# Altium footprint library Icarus PCB_Lib.PcbLib: 23 footprints (part 1 of 2)
Each footprint in its own frame and in the unit in brackets; x right, y up, seen from the top. Pads: shape width x height; smd on the part's side, far side on the other; paste and mask are expansions set on the pad; w line width, h text height; cw(c..) or ccw(c..) is an arc to the next point about the centre after c.
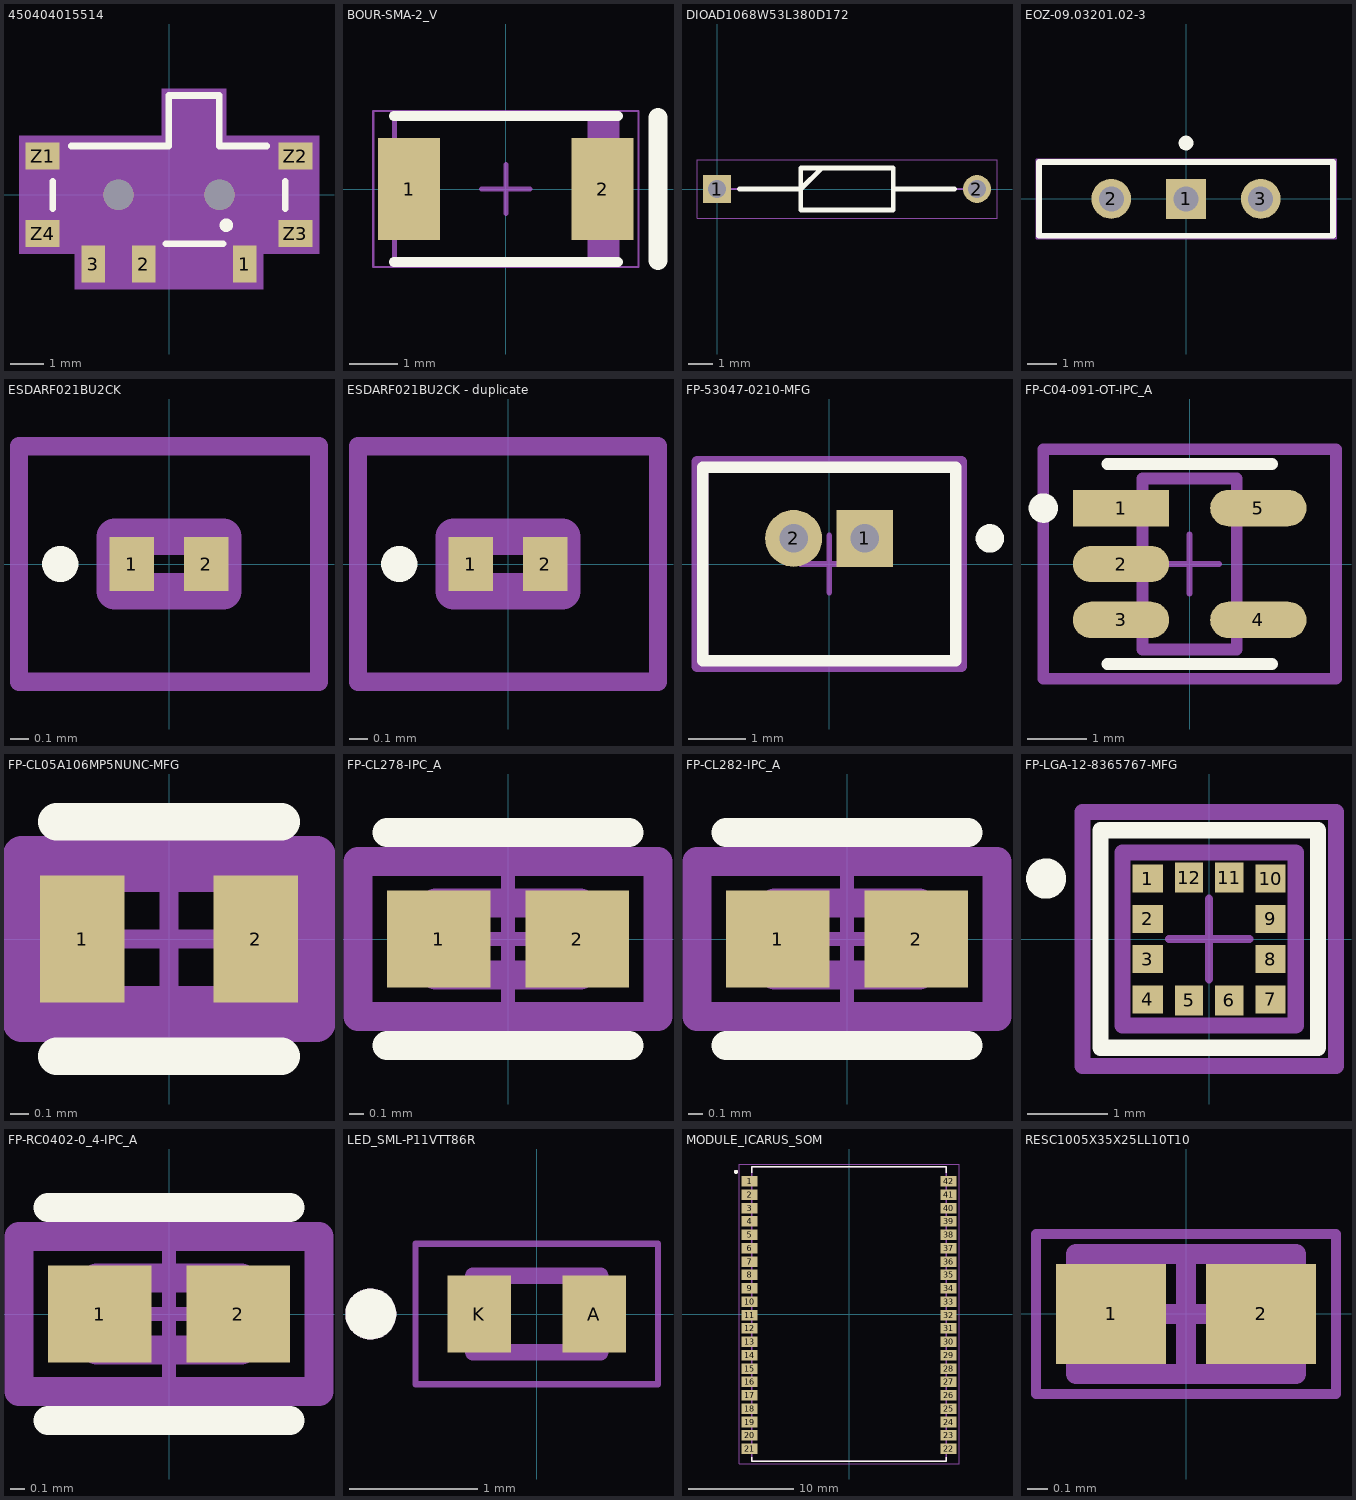
[diagram p0: the footprints below, top view; thin cyan lines are the x and y axes]

## 450404015514 [mm]
pads (9):
  rect 0.7x1.1 smd: 1(2.25,-2.05) 2(-0.75,-2.05) 3(-2.25,-2.05)
  rect 1x0.8 smd: Z1(-3.75,1.15) Z2(3.75,1.15) Z3(3.75,-1.15) Z4(-3.75,-1.15)
  round 0.9 hole 0.9 unplated: ""(-1.5,0) ""(1.5,0)
Top Overlay:
  circle w0.2: c1.7,-0.9 r0.1
  lines w0.2: -3.45,-0.4 -3.45,0.4 ; -2.9,1.45 -0.01,1.45 -0.01,2.95 1.49,2.95 1.49,1.45 2.9,1.45 ; -0.1,-1.45 1.6,-1.45 ; 3.45,-0.4 3.45,0.4
Mechanical 13:
  lines w0.1: 0.09,1.35 -3.35,1.35 -3.35,-1.35 3.35,-1.35 3.35,1.35 1.39,1.35 ; 0.09,1.35 1.39,1.35 ; 0.09,1.35 0.09,2.85 1.39,2.85 1.39,1.35
Mechanical 15:
  region: 1.7,1.75 4.45,1.75 4.45,-1.75 2.8,-1.75 2.8,-2.8 -2.8,-2.8 -2.8,-1.75 -4.45,-1.75 -4.45,1.75 -0.21,1.75 -0.21,3.15 1.7,3.15

## BOUR-SMA-2_V [mm] "SMA, 2-Leads, Body 4.57x2.92mm"
height 2.62
pads (2):
  rect 1.27x2.1 smd: 1(-1.985,0) 2(1.985,0)
Top Overlay:
  lines w0.2: -2.3,-1.5 2.3,-1.5 ; -2.3,1.5 2.3,1.5
  lines w0.4: 3.12,-1.46 3.12,1.46
Mechanical 13:
  rectangle: 1.67,-1.46 2.285,1.46
  lines w0.1: -2.285,-1.46 -2.285,1.46 2.285,1.46 2.285,-1.46 -2.285,-1.46
Mechanical 15:
  lines w0.05: -2.72,-1.6 -2.72,1.6 2.72,1.6 2.72,-1.6 -2.72,-1.6
  lines w0.1: -0.5,0 0.5,0 ; 0,-0.5 0,0.5
3D body "DIOM4326X26L.step": height 2.62, standoff 0, extent -2.505,-1.46 2.505,1.46

## DIOAD1068W53L380D172 [mm]
pads (2):
  rect 1.15x1.15 / inner round 1.15 / far side rect 1.15x1.15 hole 0.75: 1(0,0)
  round 1.15 hole 0.75: 2(10.7,0)
Top Overlay:
  lines w0.2: 0.925,0 3.448,0 4.308,0.86 ; 7.252,0 9.775,0 ; 3.448,-0.86 3.448,0.86 7.252,0.86 7.252,-0.86 3.448,-0.86
Mechanical 15:
  lines w0.1: 0,0 3.448,0 4.308,0.86 ; 7.252,0 10.7,0 ; 3.448,-0.86 3.448,0.86 7.253,0.86 7.253,-0.86 3.448,-0.86
Bottom Assembly:
  lines w0.05: -0.825,-1.21 -0.825,1.21 11.525,1.21 11.525,-1.21 -0.825,-1.21
3D body "1N5223B.stp": height 1.9, standoff -1.91, extent -0.252,-0.953 10.964,0.953

## EOZ-09.03201.02-3 [mm] "TH, 3-Leads, Body 10x2.5mm, Pitch 2.54mm"
height 6.4
pads (3):
  rect 1.35x1.35 hole 0.85: 1(0,0)
  round 1.35 hole 0.85: 2(-2.54,0) 3(2.54,0)
Top Overlay:
  circle w0.25: c0,1.9 r0.125
  lines w0.2: -5,-1.25 5,-1.25 5,1.25 -5,1.25 -5,-1.25
Mechanical 13:
  lines w0.1: -5,-1.25 5,-1.25 5,1.25 -5,1.25 -5,-1.25
Mechanical 15:
  lines w0.05: -5.1,-1.35 -5.1,1.35 5.1,1.35 5.1,-1.35 -5.1,-1.35
3D body: height 6.4, standoff 0, extent -5,-1.25 5,1.25

## ESDARF021BU2CK [mm]
pads (2):
  rect 0.244x0.3 smd: 1(-0.206,0) 2(0.206,0)
Top Overlay:
  lines w0.1: -0.6,-0.05 ccw(c-0.6,0) -0.6,0.05 ccw(c-0.6,0) -0.6,-0.05
Mechanical 15:
  lines w0.2: -0.3,-0.15 -0.3,0.15 0.3,0.15 0.3,-0.15 -0.3,-0.15
Bottom Assembly:
  lines w0.1: -0.828,-0.65 -0.828,0.65 0.828,0.65 0.828,-0.65 -0.828,-0.65
3D body "ESDARF02-1BU2CK.stp": height 0.43, standoff 0, extent -0.304,-0.15 0.304,0.15

## ESDARF021BU2CK - duplicate [mm]
pads (2):
  rect 0.244x0.3 smd: 1(-0.206,0) 2(0.206,0)
Top Overlay:
  lines w0.1: -0.6,-0.05 ccw(c-0.6,0) -0.6,0.05 ccw(c-0.6,0) -0.6,-0.05
Mechanical 15:
  lines w0.2: -0.3,-0.15 -0.3,0.15 0.3,0.15 0.3,-0.15 -0.3,-0.15
Bottom Assembly:
  lines w0.1: -0.828,-0.65 -0.828,0.65 0.828,0.65 0.828,-0.65 -0.828,-0.65

## FP-53047-0210-MFG [mm]
pads (2):
  rect 1x1 hole 0.5 paste-1000 mask+0: 1(0.625,0.45)
  round 1 hole 0.5 paste-1000 mask+0: 2(-0.625,0.45)
Top Overlay:
  circle w0.25: c2.825,0.45 r0.125
  lines w0.2: -2.225,-1.7 2.225,-1.7 2.225,1.7 -2.225,1.7 -2.225,-1.7
Top 3D Body:
  lines w0.2: -2.225,-1.7 2.225,-1.7 2.225,1.7 -2.225,1.7 -2.225,-1.7
Top Courtyard:
  lines w0.2: -2.325,-1.8 2.325,-1.8 2.325,1.8 -2.325,1.8 -2.325,-1.8
Top Assembly:
  lines w0.2: -2.325,-1.8 2.325,-1.8 2.325,1.8 -2.325,1.8 -2.325,-1.8
  text ".Designator" at 0,0.188 h1
Top Component Center:
  lines w0.1: -0.5,0 0.5,0 ; 0,-0.5 0,0.5
3D body "Conn_Molex_53047-0210_eec.STEP": height 0.25, standoff 0, extent -2.325,-1.8 2.325,1.8

## FP-C04-091-OT-IPC_A [mil]
pads (5):
  rect 64.5x24.33 smd paste+0 mask+0: 1(-45.91,37.4)
  rrect100% 64.5x24.33 smd paste+0 mask+0: 2(-45.91,0) 3(-45.91,-37.4) 4(45.91,-37.4) 5(45.91,37.4)
Top Overlay:
  circle w9.84: c-97.85,37.4 r4.92
  lines w7.87: -55.12,-66.93 55.12,-66.93 ; -55.12,66.93 55.12,66.93
Top 3D Body:
  lines w7.87: -31.5,-57.09 -31.5,57.09 31.5,57.09 31.5,-57.09 -31.5,-57.09
Top Courtyard:
  lines w7.87: -97.85,-76.77 -97.85,76.77 97.85,76.77 97.85,-76.77 -97.85,-76.77
Top Assembly:
  lines w7.87: -97.85,-76.77 -97.85,76.77 97.85,76.77 97.85,-76.77 -97.85,-76.77
  text ".Designator" at 0,7.41 h39.37
Top Component Center:
  lines w3.94: -19.68,0 19.68,0 ; 0,-19.68 0,19.68

## FP-CL05A106MP5NUNC-MFG [mm]
pads (2):
  rect 0.45x0.675 smd paste+0 mask+0: 1(-0.463,0) 2(0.463,0)
Top Overlay:
  lines w0.2: -0.6,-0.625 0.6,-0.625 ; -0.6,0.625 0.6,0.625
Top 3D Body:
  lines w0.2: -0.6,-0.35 0.6,-0.35 0.6,0.35 -0.6,0.35 -0.6,-0.35
Top Courtyard:
  lines w0.2: -0.787,-0.45 0.787,-0.45 0.787,0.45 -0.787,0.45 -0.787,-0.45
Top Assembly:
  lines w0.2: -0.787,-0.45 0.787,-0.45 0.787,0.45 -0.787,0.45 -0.787,-0.45
  text ".Designator" at 0,0.188 h1
Top Component Center:
  lines w0.1: -0.5,0 0.5,0 ; 0,-0.5 0,0.5
3D body "Cap_Samsung_CL05A106MP5NUNC_eec.STEP": height 0.25, standoff 0, extent -0.787,-0.45 0.787,0.45

## FP-CL278-IPC_A [mm]
pads (2):
  rect 0.715x0.672 smd paste+0 mask+0: 1(-0.479,0) 2(0.479,0)
Top Overlay:
  lines w0.2: -0.836,-0.736 0.836,-0.736 ; -0.836,0.736 0.836,0.736
Top 3D Body:
  lines w0.2: -0.5,-0.25 -0.5,0.25 0.5,0.25 0.5,-0.25 -0.5,-0.25
Top Courtyard:
  lines w0.2: -1.036,-0.536 -1.036,0.536 1.036,0.536 1.036,-0.536 -1.036,-0.536
Top Assembly:
  lines w0.2: -1.036,-0.536 -1.036,0.536 1.036,0.536 1.036,-0.536 -1.036,-0.536
  text ".Designator" at 0,0.188 h1
Top Component Center:
  lines w0.1: -0.5,0 0.5,0 ; 0,-0.5 0,0.5
3D body "Cap_Samsung_CL05A104KA5NNNC_eec.STEP": height 0.25, standoff 0, extent -1.036,-0.536 1.036,0.536

## FP-CL282-IPC_A [mm]
pads (2):
  rect 0.715x0.672 smd paste+0 mask+0: 1(-0.479,0) 2(0.479,0)
Top Overlay:
  lines w0.2: -0.836,-0.736 0.836,-0.736 ; -0.836,0.736 0.836,0.736
Top 3D Body:
  lines w0.2: -0.5,-0.25 0.5,-0.25 0.5,0.25 -0.5,0.25 -0.5,-0.25
Top Courtyard:
  lines w0.2: -1.036,-0.536 1.036,-0.536 1.036,0.536 -1.036,0.536 -1.036,-0.536
Top Assembly:
  lines w0.2: -1.036,-0.536 1.036,-0.536 1.036,0.536 -1.036,0.536 -1.036,-0.536
  text ".Designator" at 0,0.188 h1
Top Component Center:
  lines w0.1: -0.5,0 0.5,0 ; 0,-0.5 0,0.5
3D body "Cap_Samsung_CL05A475MP5NRNC_eec.STEP": height 0.25, standoff 0, extent -1.036,-0.536 1.036,0.536

## FP-LGA-12-8365767-MFG [mm]
pads (12):
  rect 0.375x0.35 smd paste-1000 mask+0: 1(-0.763,0.75) 2(-0.763,0.25) 3(-0.763,-0.25) 4(-0.763,-0.75) 7(0.763,-0.75) 8(0.763,-0.25) 9(0.763,0.25) 10(0.763,0.75)
  rect 0.35x0.375 smd paste-1000 mask+0: 5(-0.25,-0.763) 6(0.25,-0.763) 11(0.25,0.763) 12(-0.25,0.763)
Top Overlay:
  circle w0.25: c-2.025,0.75 r0.125
  lines w0.2: -1.35,-1.35 -1.35,1.35 1.35,1.35 1.35,-1.35 -1.35,-1.35
Top Paste:
  rectangle: 0.093,0.595 0.406,0.93
  rectangle: -0.406,0.595 -0.093,0.93
  rectangle: 0.093,-0.93 0.406,-0.595
  rectangle: -0.406,-0.93 -0.093,-0.595
  rectangle: 0.595,-0.907 0.93,-0.593
  rectangle: 0.595,-0.406 0.93,-0.093
  rectangle: 0.595,0.093 0.93,0.406
  rectangle: 0.595,0.593 0.93,0.907
  rectangle: -0.93,-0.907 -0.595,-0.593
  rectangle: -0.93,-0.406 -0.595,-0.093
  rectangle: -0.93,0.093 -0.595,0.406
  rectangle: -0.93,0.593 -0.595,0.907
Top 3D Body:
  lines w0.2: -1.075,-1.075 -1.075,1.075 1.075,1.075 1.075,-1.075 -1.075,-1.075
Top Courtyard:
  lines w0.2: -1.575,-1.575 -1.575,1.575 1.575,1.575 1.575,-1.575 -1.575,-1.575
Top Assembly:
  lines w0.2: -1.575,-1.575 -1.575,1.575 1.575,1.575 1.575,-1.575 -1.575,-1.575
  text ".Designator" at 0,0.188 h1
Top Component Center:
  lines w0.1: -0.5,0 0.5,0 ; 0,-0.5 0,0.5
3D body "IC_STMicroelectronics_LIS2DH12TR_eec.STEP": height 0.25, standoff 0, extent -1.575,-1.575 1.575,1.575

## FP-RC0402-0_4-IPC_A [mm]
pads (2):
  rect 0.715x0.672 smd paste+0 mask+0: 1(-0.479,0) 2(0.479,0)
Top Overlay:
  lines w0.2: -0.836,-0.736 0.836,-0.736 ; -0.836,0.736 0.836,0.736
Top 3D Body:
  lines w0.2: -0.5,-0.25 0.5,-0.25 0.5,0.25 -0.5,0.25 -0.5,-0.25
Top Courtyard:
  lines w0.2: -1.036,-0.536 1.036,-0.536 1.036,0.536 -1.036,0.536 -1.036,-0.536
Top Assembly:
  lines w0.2: -1.036,-0.536 1.036,-0.536 1.036,0.536 -1.036,0.536 -1.036,-0.536
  text ".Designator" at 0,0.188 h1
Top Component Center:
  lines w0.1: -0.5,0 0.5,0 ; 0,-0.5 0,0.5
3D body "Res_YAGEO_RC0402JR-071ML_eec.STEP": height 0.25, standoff 0, extent -1.036,-0.536 1.036,0.536

## LED_SML-P11VTT86R [mm]
height 0.25
pads (2):
  rect 0.5x0.6 smd: A(0.45,0) K(-0.45,0)
Top Overlay:
  circle w0.2: c-1.3,0 r0.1
Mechanical 13:
  circle w0.2: c-1.3,0 r0.1
  lines w0.127: -0.5,-0.3 -0.5,0.3 0.5,0.3 0.5,-0.3 -0.5,-0.3
Mechanical 15:
  lines w0.05: -0.95,-0.55 0.95,-0.55 0.95,0.55 -0.95,0.55 -0.95,-0.55
3D body "step_temp.STEP": height 0.21, standoff -0.04, extent -0.5,-0.3 0.5,0.3

## MODULE_ICARUS_SOM [mm]
pads (42):
  rect 1.5x1 smd: 1(-9.45,12.6) 2(-9.45,11.33) 3(-9.45,10.06) 4(-9.45,8.79) 5(-9.45,7.52) 6(-9.45,6.25) 7(-9.45,4.98) 8(-9.45,3.71) 9(-9.45,2.44) 10(-9.45,1.17) 11(-9.45,-0.1) 12(-9.45,-1.37) 13(-9.45,-2.64) 14(-9.45,-3.91) 15(-9.45,-5.18) 16(-9.45,-6.45) 17(-9.45,-7.72) 18(-9.45,-8.99) 19(-9.45,-10.26) 20(-9.45,-11.53) 21(-9.45,-12.8) 22(9.45,-12.8) 23(9.45,-11.53) 24(9.45,-10.26) 25(9.45,-8.99) 26(9.45,-7.72) 27(9.45,-6.45) 28(9.45,-5.18) 29(9.45,-3.91) 30(9.45,-2.64) 31(9.45,-1.37) 32(9.45,-0.1) 33(9.45,1.17) 34(9.45,2.44) 35(9.45,3.71) 36(9.45,4.98) 37(9.45,6.25) 38(9.45,7.52) 39(9.45,8.79) 40(9.45,10.06) 41(9.45,11.33) 42(9.45,12.6)
Top Overlay:
  circle w0.2: c-10.75,13.5 r0.1
  lines w0.127: -9.25,-13.62 -9.25,-14 9.25,-14 9.25,-13.62 ; -9.25,13.42 -9.25,14 9.25,14 9.25,13.42
Mechanical 13:
  circle w0.2: c-10.75,13.5 r0.1
  lines w0.127: -9.25,-14 -9.25,14 9.25,14 9.25,-14 -9.25,-14
Mechanical 15:
  lines w0.05: -10.45,-14.25 -10.45,14.25 10.45,14.25 10.45,-14.25 -10.45,-14.25
3D body "step_temp.STEP": height 2.33, standoff 0.01, extent -9.356,-13.873 9.144,14.127

## RESC1005X35X25LL10T10 [mm] "Chip Resistor, 2-Leads, Body 1.00x0.50mm, IPC High Density"
height 0.35
pads (2):
  rect 0.55x0.5 smd: 1(-0.375,0) 2(0.375,0)
Mechanical 13:
  lines w0.1: -0.55,-0.3 0.55,-0.3 0.55,0.3 -0.55,0.3 -0.55,-0.3
Mechanical 15:
  lines w0.05: -0.75,-0.4 0.75,-0.4 0.75,0.4 -0.75,0.4 -0.75,-0.4
  lines w0.1: -0.3,0 0.3,0 ; 0,-0.3 0,0.3
3D body: height 0.35, standoff 0, extent 0.3,-0.3 0.55,0.3
3D body: height 0.35, standoff 0, extent -0.55,-0.3 -0.3,0.3
3D body: height 0.35, standoff 0, extent -0.3,-0.3 0.3,0.3